# Altium schematic symbol library 220uF 35V Elektrolikit Kapasitör.SchLib: 1 symbol
Pins are listed as number, name and electrical type; pins without a type are passive.

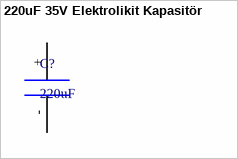
[diagram p0: symbol 220uF 35V Elektrolikit Kapasitör]

## 220uF 35V Elektrolikit Kapasitör
designator C?, comment 220uF
footprint 220uF 35V Elektrolikit Kapasitör
pins: +, -